# EAGLE library part SN74LVC1G123 (library laforge)
SN74LVC1G123 single retriggerable monostable multivibrator with schmitt-trigger inputs
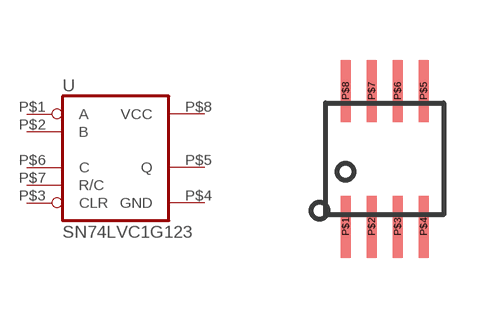
[diagram p37: symbol with the pads of SSOP8; footprint SSOP8]

Designator prefix -

## SN74LVC1G123 (OC_DIGIKEY: 296-18758-1-ND)  [SSOP8]
P$1  A  in
P$2  B  in
P$3  CLR  in
P$4  GND  pas
P$5  Q  out
P$6  C  in
P$7  R/C  in
P$8  VCC  pas

## Footprint SSOP8 (pad centres in mm)
SSOP8 / TI DCT (R-PDSO-G8) 09/02
smd 0.25 x 1.55: P$1 -0.975,-1.7; P$2 -0.325,-1.7; P$3 0.325,-1.7; P$4 0.975,-1.7; P$5 0.975,1.7; P$6 0.325,1.7; P$7 -0.325,1.7; P$8 -0.975,1.7